# EAGLE library part USB-B1HSW6 (library cartesian_main)
http://www.on-shore.com/wp-content/uploads/USB-B1HSXX.pdf
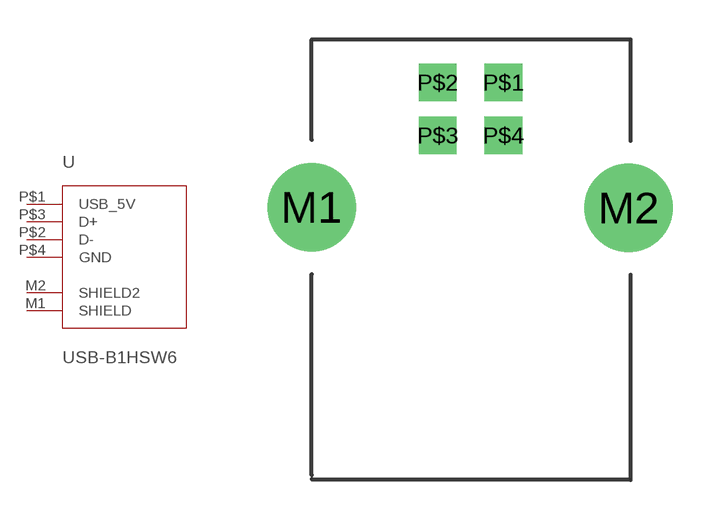
[diagram p3: symbol with the pads of USB-B1HSW6; footprint USB-B1HSW6]

Designator prefix -

## USB-B1HSW6  [USB-B1HSW6]
M1  SHIELD
M2  SHIELD2
P$1  USB_5V
P$2  D-
P$3  D+
P$4  GND

## Footprint USB-B1HSW6 (pad centres in mm)
USB Header Footprint. Meant for On-Shore USB-B1HSW6 (http://www.on-shore.com/wp-content/uploads/USB-B1HSXX.pdf)
drill 2.337: M1 0,0; M2 12.014,-0.025
drill 0.914 square: P$1 7.264,4.724; P$2 4.775,4.724; P$3 4.775,2.718; P$4 7.264,2.718